# EAGLE library part USBA-DUAL-VERT-ECON (library FHD-Connectors)
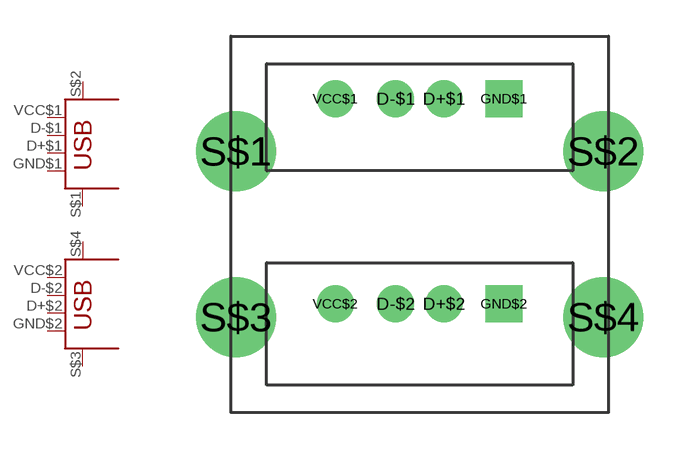
[diagram p1: symbol with the pads of USB-ECON-DUAL; footprint USB-ECON-DUAL]

Designator prefix -; gates G$1=USB+SHIELD G$2=USB+SHIELD

## USBA-DUAL-VERT-ECON  [USB-ECON-DUAL]
D+$1  G$1:D+
D+$2  G$2:D+
D-$1  G$1:D-
D-$2  G$2:D-
GND$1  G$1:GND
GND$2  G$2:GND
S$1  G$1:S1
S$2  G$1:S2
S$3  G$2:S1
S$4  G$2:S2
VCC$1  G$1:VBUS
VCC$2  G$2:VBUS

## Footprint USB-ECON-DUAL (pad centres in mm)
drill 1.02: D+$1 1,4.25; D+$2 1,-4.25; D-$1 -1,4.25; D-$2 -1,-4.25; VCC$1 -3.5,4.25; VCC$2 -3.5,-4.25
drill 1.02 square: GND$1 3.5,4.25; GND$2 3.5,-4.25
drill 2.3: S$1 -7.62,2.07; S$2 7.62,2.07; S$3 -7.62,-4.8; S$4 7.62,-4.8